# Altium footprint library homod_gen.PcbLib: 17 footprints (part 1 of 2)
Each footprint in its own frame and in the unit in brackets; x right, y up, seen from the top. Pads: shape width x height; smd on the part's side, far side on the other; paste and mask are expansions set on the pad; w line width, h text height; cw(c..) or ccw(c..) is an arc to the next point about the centre after c.
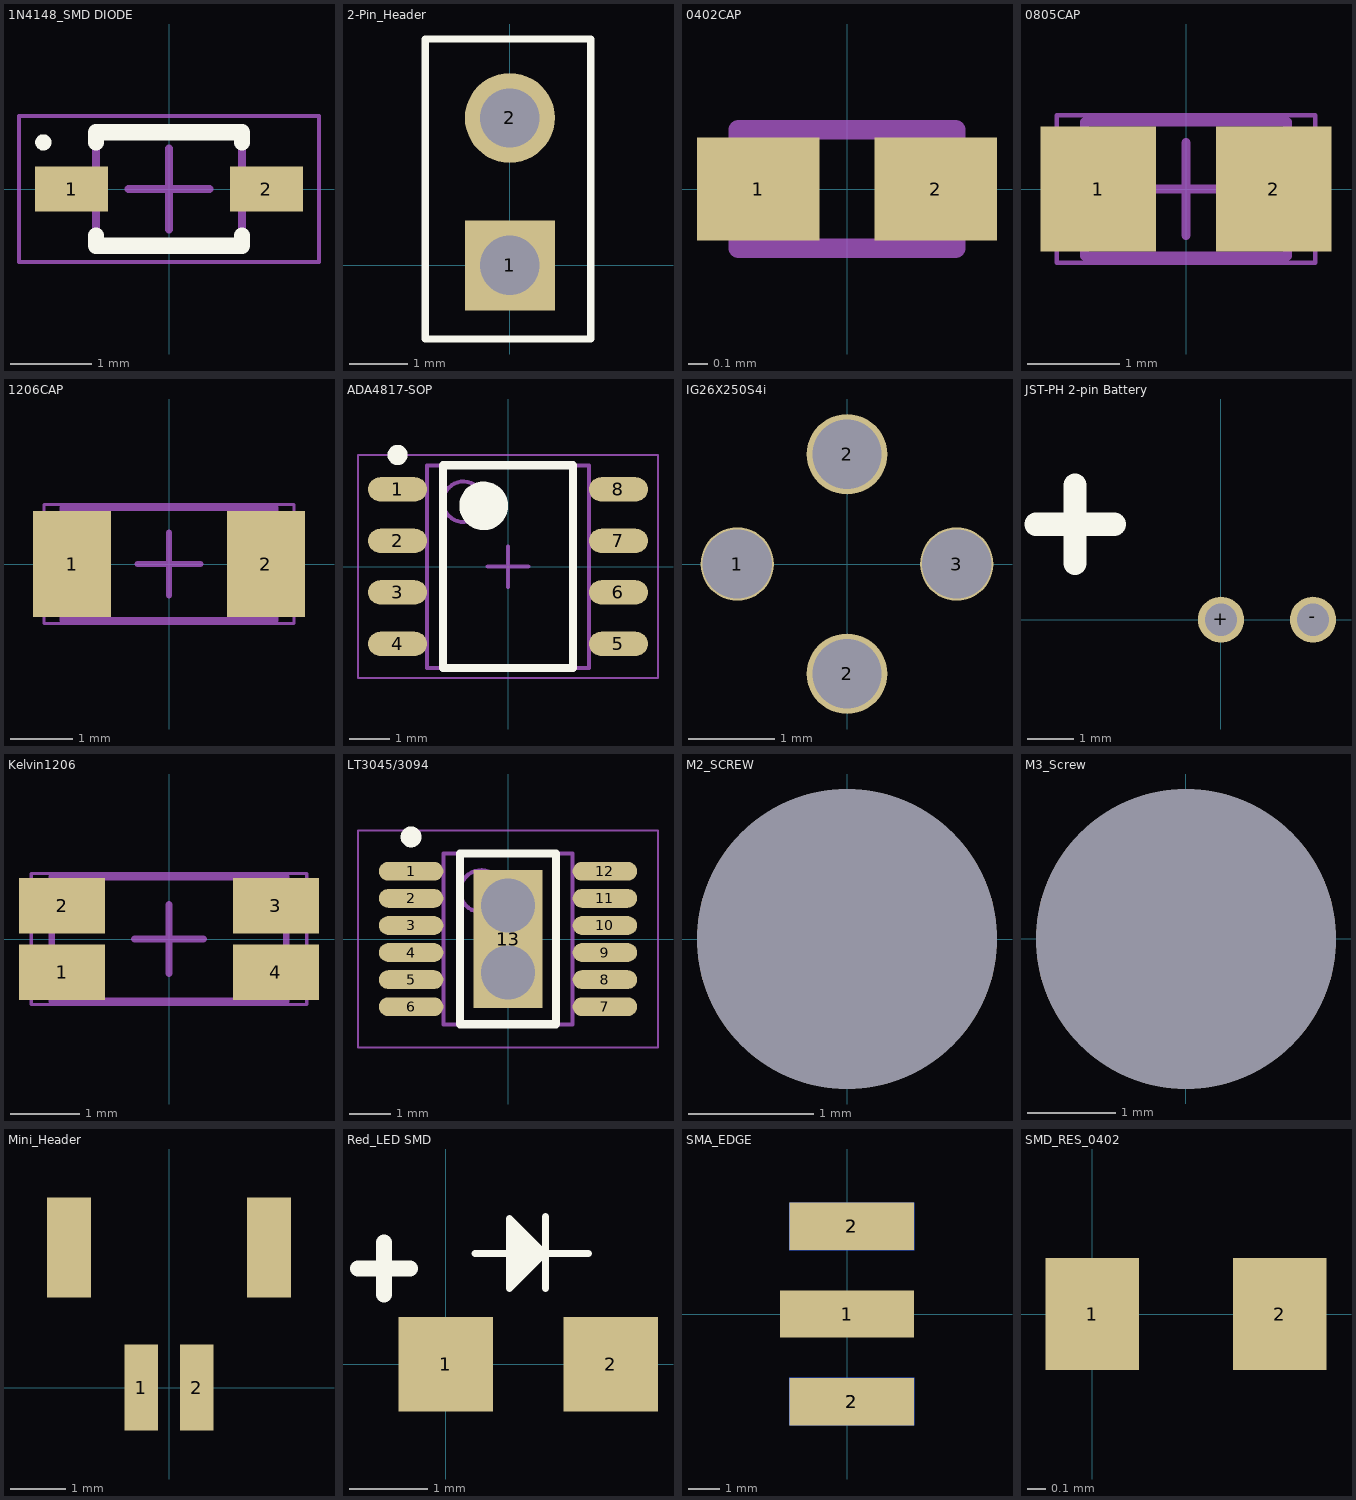
[diagram p0: the footprints below, top view; thin cyan lines are the x and y axes]

## 1N4148_SMD DIODE [mm] "Reverse protection diode"
height 1
pads (2):
  rect 0.9x0.55 smd: 1(-1.2,0) 2(1.2,0)
Top Overlay:
  circle w0.1: c-1.55,0.575 r0.05
  lines w0.2: -0.9,-0.575 -0.9,-0.7 0.9,-0.7 0.9,-0.575 ; -0.9,0.575 -0.9,0.7 0.9,0.7 0.9,0.575
Mechanical 13:
  lines w0.1: -0.9,-0.675 -0.9,0.675 0.9,0.675 0.9,-0.675 -0.9,-0.675
Mechanical 15:
  lines w0.05: -1.85,-0.9 -1.85,0.9 1.85,0.9 1.85,-0.9 -1.85,-0.9
  lines w0.1: -0.5,0 0.5,0 ; 0,-0.5 0,0.5
3D body "SODFL250X100-2M.step": height 1, standoff 0, extent -1.25,-0.675 1.25,0.675

## 2-Pin_Header [mm]
pads (2):
  rect 1.55x1.55 hole 1.02: 1(0,0)
  round 1.55 hole 1.02: 2(0,2.54)
Top Overlay:
  lines w0.127: -1.46,-1.27 -1.46,3.899 1.397,3.899 1.397,-1.27 -1.46,-1.27
Mechanical 13:
  lines w0.1: -1.46,-1.27 -1.46,3.81

## 0402CAP [mm] "0402 Package SMD Capacitor"
height 0.6
pads (2):
  rect 0.62x0.52 smd: 1(-0.45,0) 2(0.45,0)
Mechanical 13:
  lines w0.1: -0.55,-0.3 0.55,-0.3 0.55,0.3 -0.55,0.3 -0.55,-0.3
3D body: height 0.6, standoff 0, extent 0.3,-0.3 0.55,0.3
3D body: height 0.6, standoff 0, extent -0.55,-0.3 -0.3,0.3
3D body: height 0.6, standoff 0, extent -0.3,-0.3 0.3,0.3

## 0805CAP [mm] "0805 Package SMD Capacitor"
height 1.45
pads (2):
  rect 1.25x1.35 smd: 1(-0.95,0) 2(0.95,0)
Mechanical 13:
  lines w0.1: -1.1,-0.725 -1.1,0.725 1.1,0.725 1.1,-0.725 -1.1,-0.725
Mechanical 15:
  lines w0.05: -1.4,-0.8 -1.4,0.8 1.4,0.8 1.4,-0.8 -1.4,-0.8
  lines w0.1: -0.5,0 0.5,0 ; 0,-0.5 0,0.5
3D body: height 1.45, standoff 0, extent -0.6,-0.725 0.6,0.725
3D body: height 1.45, standoff 0, extent -1.1,-0.725 -0.6,0.725
3D body: height 1.45, standoff 0, extent 0.6,-0.725 1.1,0.725

## 1206CAP [mm] "1206 Package SMD Capacitor"
height 1.1
pads (2):
  rect 1.25x1.7 smd: 1(-1.55,0) 2(1.55,0)
Mechanical 13:
  lines w0.1: -1.7,-0.9 -1.7,0.9 1.7,0.9 1.7,-0.9 -1.7,-0.9
Mechanical 15:
  lines w0.05: -2,-0.95 -2,0.95 2,0.95 2,-0.95 -2,-0.95
  lines w0.1: -0.5,0 0.5,0 ; 0,-0.5 0,0.5
3D body: height 1.1, standoff 0, extent -1.2,-0.9 1.2,0.9
3D body: height 1.1, standoff 0, extent -1.7,-0.9 -1.2,0.9
3D body: height 1.1, standoff 0, extent 1.2,-0.9 1.7,0.9

## ADA4817-SOP [mm] "SOP, 8-Leads, Body 4.90x3.90mm, Pitch 1.27mm, IPC Medium Density"
height 1.75
pads (8):
  oval 1.45x0.6 smd: 1(-2.725,1.905) 2(-2.725,0.635) 3(-2.725,-0.635) 4(-2.725,-1.905) 5(2.725,-1.905) 6(2.725,-0.635) 7(2.725,0.635) 8(2.725,1.905)
Top Overlay:
  circle w0.25: c-2.725,2.755 r0.125
  circle w0.6: c-0.6,1.5 r0.3
  lines w0.2: -1.6,-2.5 -1.6,2.5 1.6,2.5 1.6,-2.5 -1.6,-2.5
Mechanical 13:
  circle w0.1: c-1.1,1.6 r0.5
  lines w0.1: -2,-2.5 -2,2.5 2,2.5 2,-2.5 -2,-2.5
Mechanical 15:
  lines w0.05: -3.7,-2.75 -3.7,2.75 3.7,2.75 3.7,-2.75 -3.7,-2.75
  lines w0.1: -0.5,0 0.5,0 ; 0,-0.5 0,0.5
3D body "SOP127P600X175-8N.step": height 1.75, standoff 0, extent -3,-2.5 3,2.5

## IG26X250S4i [mm] "InGaAs"
pads (4):
  round 0.85 hole 0.8: 1(-1.27,0) 3(1.27,0)
  round 0.932 hole 0.8: 2(0,-1.27) 2(0,1.27)
3D body: height 0.3, standoff 0, extent -2.675,-2.675 2.675,2.675
3D body: height 3.2, standoff 0, extent -2.375,-2.375 2.375,2.375

## JST-PH 2-pin Battery [mm]
pads (2):
  round 1 hole 0.7: +(0,0) -(2,0)
Top Overlay:
  lines w0.508: -4.02,2.071 -2.323,2.071 ; -3.172,1.222 -3.172,2.919
3D body "B2B-PH-K-S.STEP": height 6, standoff -3.4, extent -1.961,-2.878 3.939,1.622

## Kelvin1206 [mm]
pads (4):
  rect 1.25x0.8 smd: 1(-1.55,-0.483) 2(-1.55,0.483) 3(1.55,0.483) 4(1.55,-0.483)
Mechanical 13:
  lines w0.1: -1.7,-0.9 1.7,-0.9 1.7,0.9 -1.7,0.9 -1.7,-0.9
Mechanical 15:
  lines w0.05: -2,-0.95 2,-0.95 2,0.95 -2,0.95 -2,-0.95
  lines w0.1: -0.5,0 0.5,0 ; 0,-0.5 0,0.5
3D body: height 1.1, standoff 0, extent 1.2,-0.9 1.7,0.9
3D body: height 1.1, standoff 0, extent -1.7,-0.9 -1.2,0.9
3D body: height 1.1, standoff 0, extent -1.2,-0.9 1.2,0.9

## LT3045/3094 [mm] "MSOP-12"
height 1.1
pads (13):
  oval 1.55x0.45 smd mask+0.051: 1(-2.325,1.625) 2(-2.325,0.975) 3(-2.325,0.325) 4(-2.325,-0.325) 5(-2.325,-0.975) 6(-2.325,-1.625) 7(2.325,-1.625) 8(2.325,-0.975) 9(2.325,-0.325) 10(2.325,0.325) 11(2.325,0.975) 12(2.325,1.625)
  rect 1.651x3.3 smd: 13(0,0)
via 0,0.8 diameter 1.3 hole 1.3
via 0,-0.8 diameter 1.3 hole 1.3
Top Overlay:
  circle w0.25: c-2.325,2.45 r0.125
  lines w0.2: -1.15,-2.05 1.15,-2.05 1.15,2.05 -1.15,2.05 -1.15,-2.05
Mechanical 13:
  circle w0.1: c-0.65,1.15 r0.5
  lines w0.1: -1.55,-2.05 1.55,-2.05 1.55,2.05 -1.55,2.05 -1.55,-2.05
Mechanical 15:
  lines w0.05: -3.6,-2.6 3.6,-2.6 3.6,2.6 -3.6,2.6 -3.6,-2.6
  lines w0.1: -0.5,0 0.5,0 ; 0,-0.5 0,0.5
3D body "TSOP65P490X110-12M.step": height 1.1, standoff 0, extent -2.45,-2.05 2.45,2.05

## M2_SCREW [mm]
pads (1):
  round 2.4 hole 2.4 unplated mask+0: ""(0,0)

## M3_Screw [mm]
pads (1):
  round 3.4 hole 3.4 unplated mask+0: ""(0,0)

## Mini_Header [mm]
pads (4):
  rect 0.6x1.55 smd: 1(-0.5,0) 2(0.5,0)
  rect 0.8x1.8 smd: ""(-1.8,2.525) ""(1.8,2.525)
3D body "T1M-02-T-SV-L.stp": height 5.48, standoff -0.02, extent -2.2,-0.388 2.2,4.562

## Red_LED SMD [mm] "RS #  654-5818"
pads (2):
  rect 1.2x1.2 smd: 1(0,0) 2(2.1,0)
Top Overlay:
  region: 0.838,1.753 0.914,1.753 1.219,1.448 1.219,1.397 0.838,1.016
  region: 1.27,0.965
  lines w0.089: 0.368,1.41 0.813,1.41 ; 1.245,1.422 0.813,1.854 0.813,0.965 1.257,1.41 1.816,1.41 ; 1.27,0.965 1.27,1.88
  lines w0.203: -1.118,1.219 -0.457,1.219 ; -0.787,0.889 -0.787,1.549

## SMA_EDGE [mm] "SMA RF Board Edge Connector"
pads (5):
  rect 4.25x1.5 smd: 1(0,0)
  rect 3.95x1.5 smd: 2(0.15,-2.77) 2(0.15,2.77)
  rect 3.95x1.5 smd far side: 2(0.15,-2.77) 2(0.15,2.77)

## SMD_RES_0402 [mm] "0402 Package SMD Resistor"
pads (2):
  rect 0.5x0.6 smd: 1(0,0) 2(1,0)
3D body: height 0.6, standoff 0, extent 0.802,-0.3 1.052,0.3
3D body: height 0.6, standoff 0, extent -0.048,-0.3 0.202,0.3
3D body: height 0.6, standoff 0, extent 0.202,-0.3 0.802,0.3